# Altium footprint library PcbLib1.PcbLib: 9 footprints
Each footprint in its own frame and in the unit in brackets; x right, y up, seen from the top. Pads: shape width x height; smd on the part's side, far side on the other; paste and mask are expansions set on the pad; w line width, h text height; cw(c..) or ccw(c..) is an arc to the next point about the centre after c.
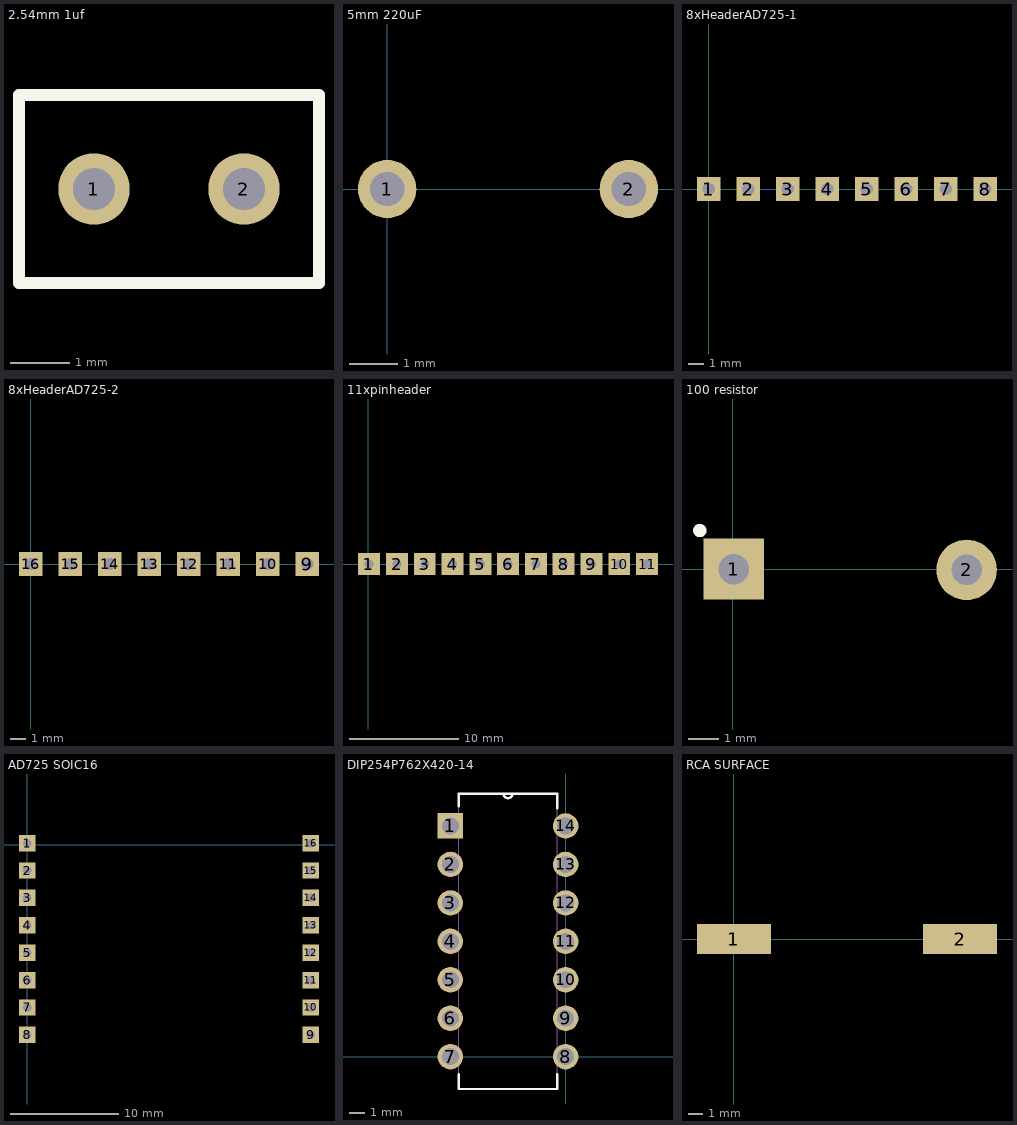
[diagram p0: the footprints below, top view; thin cyan lines are the x and y axes]

## 2.54mm 1uf [mm]
pads (2):
  round 1.21 hole 0.71: 1(-8.27,-7) 2(-5.73,-7)
Top Overlay:
  lines w0.2: -9.54,-8.59 -9.54,-5.41 -4.46,-5.41 -4.46,-8.59 -9.54,-8.59
Mechanical 13:
  lines w0.2: -9.54,-8.59 -9.54,-5.41 -4.46,-5.41 -4.46,-8.59 -9.54,-8.59

## 5mm 220uF [mm]
pads (2):
  round 1.21 hole 0.71: 1(0,0) 2(5,0)

## 8xHeaderAD725-1 [mil]
pads (8):
  rect 60x60 hole 31.5 square: 1(0,0) 2(100,0) 3(200,0) 4(300,0) 5(400,0) 6(500,0) 7(600,0) 8(700,0)
3D body "User Library-Header_Male_8Pin.STEP": height 336.22, standoff -118.11, extent -49.99,-49.01 750.01,49.02

## 8xHeaderAD725-2 [mil]
pads (8):
  rect 60x60 hole 31.5 square: 9(700,0) 10(600,0) 11(500,0) 12(400,0) 13(300,0) 14(200,0) 15(100,0) 16(0,0)
3D body "User Library-Header_Male_8Pin.STEP": height 336.22, standoff -118.11, extent -49.99,-49.01 750.01,49.02

## 11xpinheader [mm]
pads (11):
  rect 2x2 hole 0.8 square: 1(0.051,0) 2(2.616,0) 3(5.156,0) 4(7.696,0) 5(10.236,0) 6(12.776,0) 7(15.31,0) 8(17.85,0) 9(20.39,0) 10(22.93,0) 11(25.47,0)

## 100 resistor [mm]
pads (2):
  rect 2x2 hole 1 mask+0.05: 1(0.025,0)
  round 2 hole 1 mask+0.05: 2(7.696,-0.025)
Top Overlay:
  circle w0.254: c-1.092,1.27 r0.092
3D body "CircuitWorks-RESISTOR 7_62MM DIP.STEP": height 2, standoff -2, extent -0.164,-1.076 7.936,0.924

## AD725 SOIC16 [mil] "SOIC, 16-Leads, Body 10,25x7,50mm, Pitch 1,27mm, IPC Medium Density"
height 104.33
pads (16):
  rect 60x60 hole 31.5 square: 1(0,5) 2(0,-95) 3(0,-195) 4(0,-295) 5(0,-395) 6(0,-495) 7(0,-595) 8(0,-695) 9(1035.43,-695) 10(1035.43,-595) 11(1035.43,-495) 12(1035.43,-395) 13(1035.43,-295) 14(1035.43,-195) 15(1035.43,-95) 16(1035.43,5)
3D body "User Library-Header_Male_8Pin.STEP": height 336.22, standoff -118.11, extent -49.01,-745 49.02,55
3D body "User Library-Header_Male_8Pin.STEP": height 336.22, standoff -118.11, extent 986.42,-745.01 1084.45,54.99

## DIP254P762X420-14 [mil]
pads (14):
  rect 66x66 hole 44: 1(-300,600)
  round 66 hole 44: 2(-300,500) 3(-300,400) 4(-300,300) 5(-300,200) 6(-300,100) 7(-300,0) 8(0,0) 9(0,100) 10(0,200) 11(0,300) 12(0,400) 13(0,500) 14(0,600)
Top Overlay:
  lines w6: -278,-46 -278,-84 -22,-84 -22,-46 ; -278,651 -278,684 -162,684 ; -22,646 -22,684 -138,684 ; -162,684 ccw(c-150,684) -138,684 ; -162,684 -138,684
Mechanical 13:
  lines w0: -162,684 ccw(c-150,684) -138,684 ; -162,684 -138,684 ; -162,684 -278,684 -278,-84 -22,-84 -22,684 -138,684 ; -322,-22 -322,22 -278,22 -278,-22 -322,-22 ; -322,78 -322,122 -278,122 -278,78 -322,78 ; -322,178 -322,222 -278,222 -278,178 -322,178 ; -322,278 -322,322 -278,322 -278,278 -322,278 ; -322,378 -322,422 -278,422 -278,378 -322,378 ; -322,478 -322,522 -278,522 -278,478 -322,478 ; -322,578 -322,622 -278,622 -278,578 -322,578 ; -22,-22 -22,22 22,22 22,-22 -22,-22 ; -22,78 -22,122 22,122 22,78 -22,78 ; -22,178 -22,222 22,222 22,178 -22,178 ; -22,278 -22,322 22,322 22,278 -22,278 ; -22,378 -22,422 22,422 22,378 -22,378 ; -22,478 -22,522 22,522 22,478 -22,478 ; -22,578 -22,622 22,622 22,578 -22,578

## RCA SURFACE [mm]
pads (2):
  rect 5x2 smd: 1(0,0) 2(15.3,0)